# Altium schematic symbol library 74HCT125T14-13.SchLib: 1 symbol
Pins are listed as number, name and electrical type; pins without a type are passive.

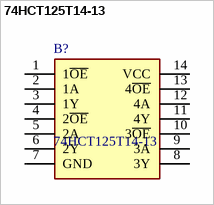
[diagram p0: symbol 74HCT125T14-13]

## 74HCT125T14-13
designator B?
DiodesZetex 74HCT125T14-13, Quad, Buffer 3-State, Non-Inverting, 4.5  5.5 V, 14-Pin TSSOP; Manufacturer_Name: Diodes Incorporated; Geometry.Height: 1.2mm; Mouser Part Number: 621-74HCT125T14-13; Mouser Price/Stock: https://www.mouser.co.uk/ProductDetail/Diodes-Incorporated/74HCT125T14-13?qs=pYVYkI7xuRW%2Fbse6mhLP1g%3D%3D; Manufacturer_Part_Number: 74HCT125T14-13; Datasheet Link: https://www.diodes.com//assets/Datasheets/74HCT125.pdf
footprint SOP65P640X120-14N
pins: 1 1~{OE}, 2 1A, 3 1Y, 4 2~{OE}, 5 2A, 6 2Y, 7 GND, 8 3Y, 9 3A, 10 3~{OE}, 11 4Y, 12 4A, 13 4~{OE}, 14 VCC